# EAGLE library part ARDUINO_NANO (library ElcPartsLibrary)
Device for representing an Arduino Nano board with a footprint in an EAGLE design. Created by Dave Young for Element14. More EAGLE documentation at: http://www.element14.com/community/community/knode/cadsoft_eagle
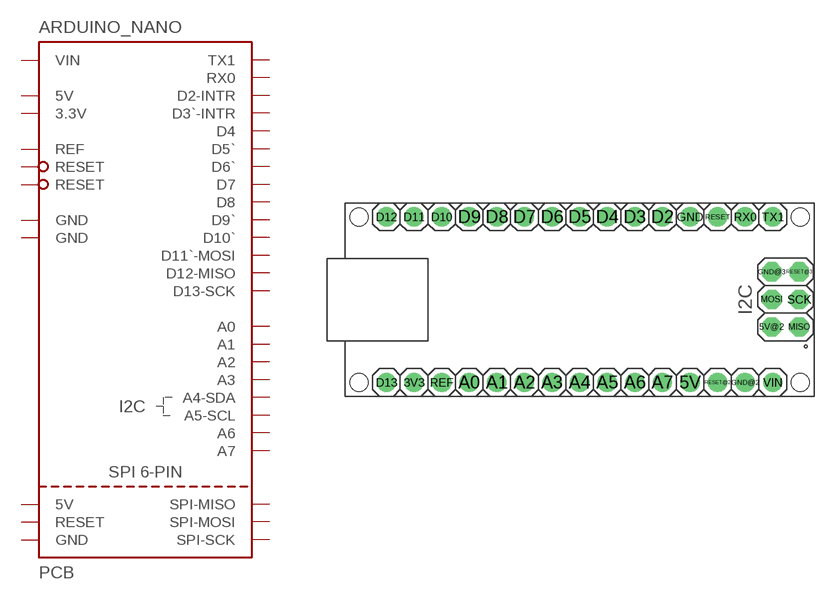
[diagram p8: symbol with the pads of ARDUINO_NANO; footprint ARDUINO_NANO]

Designator prefix PCB

## ARDUINO_NANO  [ARDUINO_NANO]
3V3  3.3V
5V  5V
5V@2  5V
A0  A0
A1  A1
A2  A2
A3  A3
A4  A4-SDA
A5  A5-SCL
A6  A6
A7  A7
D2  D2-INTR
D3  D3`-INTR
D4  D4
D5  D5`
D6  D6`
D7  D7
D8  D8
D9  D9`
D10  D10`
D11  D11`-MOSI
D12  D12-MISO
D13  D13-SCK
GND  GND
GND@2  GND
GND@3  GND
MISO  SPI-MISO
MOSI  SPI-MOSI
REF  REF
RESET  RESET
RESET@2  RESET
RESET@3  RESET
RX0  RX0
SCK  SPI-SCK
TX1  TX1
VIN  VIN

## Footprint ARDUINO_NANO (pad centres in mm)
Footprint for representing an Arduino Nano board in an EAGLE schematic
drill 1.016 pad 1.778: 3V3 -13.97,-7.62; 5V 11.43,-7.62; A0 -8.89,-7.62; A1 -6.35,-7.62; A2 -3.81,-7.62; A3 -1.27,-7.62; A4 1.27,-7.62; A5 3.81,-7.62; A6 6.35,-7.62; A7 8.89,-7.62; D2 8.89,7.62; D3 6.35,7.62; D4 3.81,7.62; D5 1.27,7.62; D6 -1.27,7.62; D7 -3.81,7.62; D8 -6.35,7.62; D9 -8.89,7.62; D10 -11.43,7.62; D11 -13.97,7.62; D12 -16.51,7.62; D13 -16.51,-7.62; GND 11.43,7.62; GND@2 16.51,-7.62; REF -11.43,-7.62; RESET 13.97,7.62; RESET@2 13.97,-7.62; RX0 16.51,7.62; TX1 19.05,7.62; VIN 19.05,-7.62
drill 1.016 pad 1.778 octagon: 5V@2 18.948,-2.515; GND@3 18.948,2.565; MISO 21.488,-2.515; MOSI 18.948,0.025; RESET@3 21.488,2.565; SCK 21.488,0.025
hole 1.651 at -19.05,-7.62
hole 1.651 at -19.05,7.62
hole 1.651 at 21.59,7.62
hole 1.651 at 21.59,-7.62